# Altium schematic symbol library LOCALLIBSCH1.SchLib: 8 symbols
Pins are listed as number, name and electrical type; pins without a type are passive.

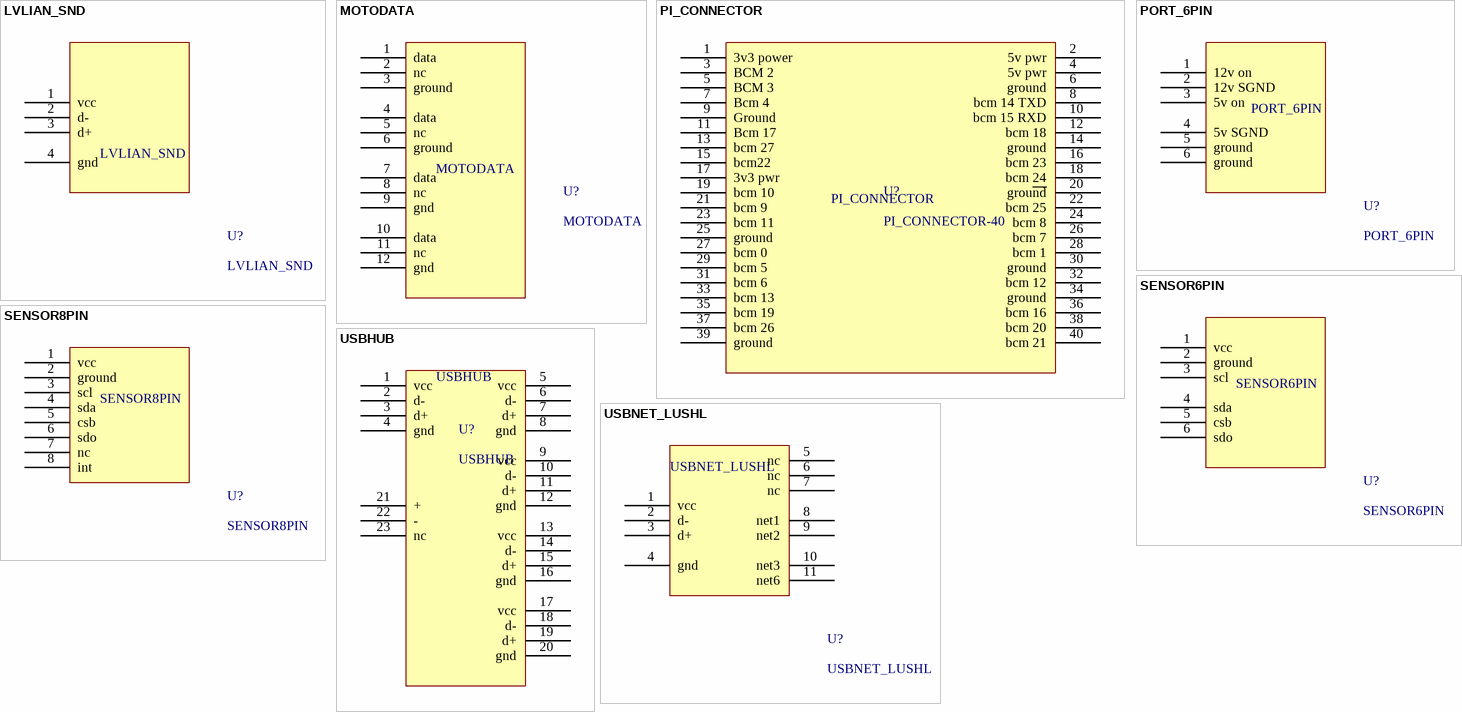
[diagram p0: symbols LVLIAN_SND to USBNET_LUSHL]

## LVLIAN_SND
designator U?
绿联声卡
footprint LVLIAN_SND (绿联声卡)
pins: 1 vcc, 2 d-, 3 d+, 4 gnd

## MOTODATA
designator U?
footprint MOTODATA (4路舵机信号插件)
pins: 1 data, 2 nc, 3 ground, 4 data, 5 nc, 6 ground, 7 data, 8 nc, 9 gnd, 10 data, 11 nc, 12 gnd

## PI_CONNECTOR
designator U?, comment PI_CONNECTOR-40
footprint PI_CONNECTOR (pi3上的40针插件)
pins: 1 3v3 power, 2 5v pwr, 3 BCM 2, 4 5v pwr, 5 BCM 3, 6 ground, 7 Bcm 4, 8 bcm 14 TXD, 9 Ground, 10 bcm 15 RXD, 11 Bcm 17, 12 bcm 18, 13 bcm 27, 14 ground, 15 bcm22, 16 bcm 23, 17 3v3 pwr, 18 bcm 24, 19 bcm 10, 20 grou~{nd}, 21 bcm 9, 22 bcm 25, 23 bcm 11, 24 bcm 8, 25 ground, 26 bcm 7, 27 bcm 0, 28 bcm 1, 29 bcm 5, 30 ground, 31 bcm 6, 32 bcm 12, 33 bcm 13, 34 ground, 35 bcm 19, 36 bcm 16, 37 bcm 26, 38 bcm 20, 39 ground, 40 bcm 21

## PORT_6PIN
designator U?
footprint DUAN5_6P (5毫米端子6个)
pins: 1 12v on, 2 12v SGND, 3 5v on, 4 5v SGND, 5 ground, 6 ground

## SENSOR6PIN
designator U?
footprint SENSOR6PIN (6针传感器)
pins: 1 vcc, 2 ground, 3 scl, 4 sda, 5 csb, 6 sdo

## SENSOR8PIN
designator U?
footprint SENSOR8PIN (8针传感器)
pins: 1 vcc, 2 ground, 3 scl, 4 sda, 5 csb, 6 sdo, 7 nc, 8 int

## USBHUB
designator U?
USB一转四
footprint USBHUB (USB一转四)
pins: 1 vcc, 2 d-, 3 d+, 4 gnd, 5 vcc, 6 d-, 7 d+, 8 gnd, 9 vcc, 10 d-, 11 d+, 12 gnd, 13 vcc, 14 d-, 15 d+, 16 gnd, 17 vcc, 18 d-, 19 d+, 20 gnd, 21 +, 22 -, 23 nc

## USBNET_LUSHL
designator U?
铝壳USB转NET
footprint USBNET_LUSHL (铝壳USB转NET)
pins: 1 vcc, 2 d-, 3 d+, 4 gnd, 5 nc, 6 nc, 7 nc, 8 net1, 9 net2, 10 net3, 11 net6